# EAGLE library part MOLEX_10_0430451009 (library stepOSP)
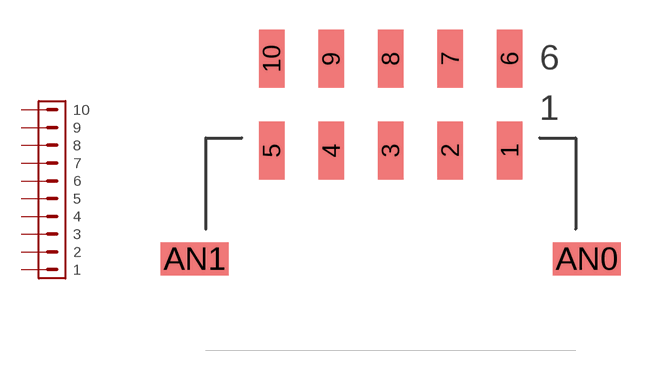
[diagram p53: symbol with the pads of MOLEX_10_0430451009; footprint MOLEX_10_0430451009]

Designator prefix -

## MOLEX_10_0430451009  [MOLEX_10_0430451009]
1  1
2  2
3  3
4  4
5  5
6  6
7  7
8  8
9  9
10  10

## Footprint MOLEX_10_0430451009 (pad centres in mm)
smd 1.27 x 2.92: 1 6,5.47; 2 3,5.47; 3 0,5.47; 4 -3,5.47; 5 -6,5.47; 6 6,10.1; 7 3,10.1; 8 0,10.1; 9 -3,10.1; 10 -6,10.1
smd 3.43 x 1.65: AN0 9.885,0; AN1 -9.885,0